# Altium schematic symbol library AHMET_CAN_KARACAN.SchLib: 94 symbols (part 1 of 3)
Pins are listed as number, name and electrical type; pins without a type are passive.

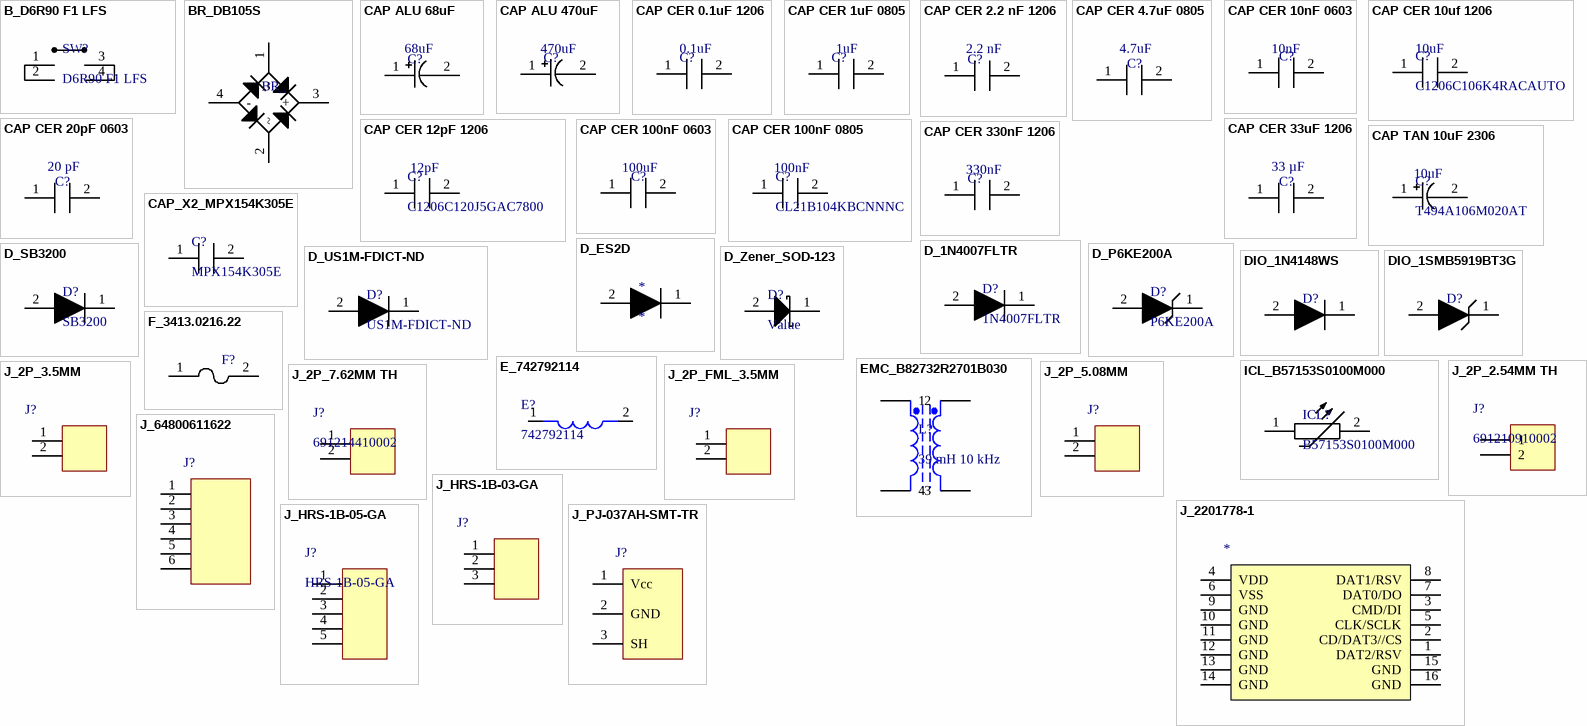
[diagram p0: symbols B_D6R90 F1 LFS to J_PJ-037AH-SMT-TR]

## B_D6R90 F1 LFS
designator SW?, comment D6R90 F1 LFS
Switch Key N.O. SPST 0.1A 32VDC 3VA 1.3N PC Pins Thru-Hole Box; Manufacturer: ITT C&K; Manufacturer Part Number: Y41A00511FPLFS; Supplier: Digi-Key; Supplier Part Number: 401-1978-ND; RoHS: Yes; Category: Pushbutton Switches; Stock: 51411; Pricing: 1=1,12, 25=0,9576, 100=0,868, 500=0,74872 (USD); ComponentLink1URL: https://datasheet.ciiva.com/16169/d6-4feb-16169815.pdf?src-supplier=Onlinecomponents.com; ComponentLink1Description: https://datasheet.ciiva.com/16169/d6-4feb-16169815.pdf?src-supplier=Onlinecomponents.com
footprint PBUTTON_OFFMOM
pins: 1, 2, 3, 4

## BR_DB105S
designator BR_, comment DB105S  (value not drawn)
Rectifier Bridge Diode Single 600V 1A 4-Pin SMD; Manufacturer: SMC Diode Solutions; Supplier: Digi-Key; Supplier Part Number: 1655-DB105STR-ND; Manufacturer Part Number: DB105S; RoHS: Yes; Category: Discrete Semiconductors; Stock: 7403; Pricing: 5=0,557, 10=0,446, 100=0,318, 500=0,222, 1000=0,159, 5000=0,139 (EUR); ComponentLink1URL: https://datasheet.ciiva.com/1174/1441678-1174528.pdf?src-supplier=Element14; ComponentLink1Description: https://datasheet.ciiva.com/1174/1441678-1174528.pdf?src-supplier=Element14; ComponentLink2URL: https://datasheet.ciiva.com/1235/1498392-1235776.pdf?src-supplier=Newark; ComponentLink2Description: https://datasheet.ciiva.com/1235/1498392-1235776.pdf?src-supplier=Newark; ComponentLink3URL: https://datasheet.ciiva.com/1235/90r8586-1235777.pdf?src-supplier=Newark; ComponentLink3Description: https://datasheet.ciiva.com/1235/90r8586-1235777.pdf?src-supplier=Newark
footprint DB_S_SMD_4
pins: 1 ~, 2 ~, 3 +, 4 -

## CAP ALU 68uF
designator C?, comment value 68uF  (hidden comment: EEV686M035A9HAA)
Cap Aluminum Lytic 68uF 35V 20%( 6.3 X 7.7mm) SMD 0.34 Ohm 280mA 2000h 105C T/R; Manufacturer: KEMET; Polarization: Polar; Designed By: Ahmet Can; ESR (Equivalent Series Resistance): 340mOhm @ 100kHz; Lifetime @ Temp.: 2000 Hrs @ 105°C; Ripple Current @ Low Frequency: 196 mA @ 120 Hz; Ripple Current @ High Frequency: 280 mA @ 100 kHz; Impedance: 340 mOhms; Supplier: Digi-Key; Supplier Part Number: 399-6722-1-ND; Manufacturer Part Number: EEV686M035A9HAA; RoHS: Yes; Category: Aluminum Electrolytic Capacitors; Stock: 22851; Pricing: 1=0,59, 10=0,415, 50=0,3134, 100=0,273, 500=0,2022 (USD); ComponentLink1URL: https://datasheet.ciiva.com/5365/kem-a4002-eev-535332-5365784.pdf?src-supplier=Mouser; ComponentLink1Description: https://datasheet.ciiva.com/5365/kem-a4002-eev-535332-5365784.pdf?src-supplier=Mouser; Case/Package: SMD, Radial, Can; Voltage Rating: 35V; Min Operating Temperature: -55°C; Max Operating Temperature: 105°C; Tolerance: ±20%; Mounting Type: Through Hole
footprint CAP_EEVseries (6.6x6.6)
pins: 1, 2

## CAP ALU 470uF
designator C?, comment value 470uF  (hidden comment: ESH477M050AH4AA)
Cap, 470UF, 50V, Alu Elec, Radial, Through Hole; Manufacturer: KEMET; Designed By: Ahmet Can; Lifetime @ Temp.: 2000 Hrs @ 105°C; Ripple Current @ Low Frequency: 630 mA @ 120 Hz; Ripple Current @ High Frequency: 945 mA @ 10 kHz; Polarization: Polar; Tolerance: ±20%; Supplier: Digi-Key; Supplier Part Number: 399-15683-ND; Manufacturer Part Number: ESH477M050AH4AA; RoHS: Yes; Stock: 6383; Pricing: 1=0,64, 10=0,455, 50=0,344, 100=0,2997, 500=0,222, 1000=0,1887, 2500=0,1776, 5000=0,1665 (USD); ComponentLink1URL: https://api.kemet.com/component-edge/download/datasheet/ESH477M050AH4AA.pdf?src-supplier=Digi-Key; ComponentLink1Description: https://api.kemet.com/component-edge/download/datasheet/ESH477M050AH4AA.pdf?src-supplier=Digi-Key; ComponentLink2URL: https://datasheet.octopart.com/ESH477M050AH4AA-KEMET-datasheet-130075338.pdf?src-supplier=Newark; ComponentLink2Description: https://datasheet.octopart.com/ESH477M050AH4AA-KEMET-datasheet-130075338.pdf?src-supplier=Newark; Category: Aluminum Electrolytic Capacitors; Case/Package: TH, Radial, Can; Mounting Type: Through Hole; Voltage Rating: 50V; Min Operating Temperature: -40°C; Max Operating Temperature: 105°C
footprint CAP_RADIAL_D10_P5
pins: 1, 2

## CAP CER 0.1uF 1206
designator C?, comment value 0.1uF  (hidden comment: C1206C104K3RAC7800)
Multilayer Ceramic Capacitor, 0.1 uF, 25 V, ± 10%, X7R, 1206 [3216 Metric]; Manufacturer: KEMET; Manufacturer Part Number: C1206C104K3RACTU; Material: 4241ConductorMaterial; Voltage Rating: 25V; Dissipation Factor: 3.5%; Designed By: Ahmet Can; Supplier: Digi-Key; Supplier Part Number: 399-C1206C104K3RAC7800CT-ND; RoHS: Yes; Category: Ceramic Capacitors; Stock: 306395; Pricing: 1=0,1, 10=0,072, 50=0,0408, 100=0,0338, 500=0,02372, 1000=0,01963 (USD); Mounting Technology: Surface Mount; Case/Package: 1206; Case Code (Metric): 3216; Case Code (Imperial): 1206; Dielectric Material: Ceramic; Min Operating Temperature: -55°C; Max Operating Temperature: 125°C; Tolerance: 10%; Dielectric: X7R; Packaging: Cut Tape; Package Quantity: 4000; Voltage Rating (DC): 25V; Termination: SMD/SMT; Series: C; Construction: Flat; Length: 3.2mm; Width: 0.063inch; Height: 0.78mm; Depth: 1.6mm; Thickness: 0.035inch; Reach SVHC Compliant: No; RoHS Compliant: Yes; ComponentLink1URL: https://datasheet.ciiva.com/5416/kem-c1002-x7r-smd-5416282.pdf?src-supplier=Mouser; ComponentLink1Description: https://datasheet.ciiva.com/5416/kem-c1002-x7r-smd-5416282.pdf?src-supplier=Mouser
footprint CAP_1206
pins: 1, 2

## CAP CER 1uF 0805
designator C?, comment value 1uF  (hidden comment: CL21B105KBFNNNE)
CAP CER %10 1uF 0805; Manufacturer: Samsung; Material: 4241ConductorMaterial; Tolerance: 10%; Voltage Rating: 50V; Dielectric: X7R; Designed By: Ahmet Can; Supplier: Digi-Key; Supplier Part Number: 1276-1029-1-ND; Manufacturer Part Number: CL21B105KBFNNNE; RoHS: Yes; Category: Ceramic Capacitors; Stock: 212507; Pricing: 1=0,11, 10=0,079, 50=0,045, 100=0,0373, 500=0,02616, 1000=0,02165 (USD); Mounting Technology: Surface Mount; Case/Package: 0805; Case Code (Metric): 2012; Case Code (Imperial): 0805; Min Operating Temperature: -55°C; Max Operating Temperature: 125°C; Packaging: Tape and Reel; Package Quantity: 1; Voltage: 50V; Series: CL; Construction: Flat; Voltage Rating (DC): 50V; Length: 2mm; Width: 0.049inch; Height: 1.25mm; Thickness: 0.053inch; Depth: 1.25mm; Radiation Hardening: No; RoHS Compliant: Yes; ComponentLink1URL: https://datasheet.ciiva.com/25800/cl21b105kbfnnne-25800291.pdf?src-supplier=Digi-Key; ComponentLink1Description: https://datasheet.ciiva.com/25800/cl21b105kbfnnne-25800291.pdf?src-supplier=Digi-Key; ComponentLink2URL: https://datasheet.ciiva.com/16449/cl21b105kbfnnne-16449003.pdf?src-supplier=Future+Electronics; ComponentLink2Description: https://datasheet.ciiva.com/16449/cl21b105kbfnnne-16449003.pdf?src-supplier=Future+Electronics
footprint CAP_0805
pins: 1, 2

## CAP CER 2.2 nF 1206
designator C?, comment value 2.2 nF  (hidden comment: CC1206KRX7R9BB222)
CAP CER 2200PF 50V X7R 1206; Manufacturer: Yageo; Supplier: Digi-Key; Supplier Part Number: 311-1171-1-ND; Manufacturer Part Number: CC1206KRX7R9BB222; RoHS: Yes; Category: Ceramic Capacitors; Stock: 22858; Pricing: 1=0,21, 10=0,145, 50=0,087, 100=0,0735, 500=0,05026, 1000=0,04446 (USD); ComponentLink1URL: https://datasheet.ciiva.com/29148/445097-da-01-en-kerko-chip-1206-x7r-2200pf-10proz-50vg-29148910.pdf?src-supplier=Conrad; ComponentLink1Description: https://datasheet.ciiva.com/29148/445097-da-01-en-kerko-chip-1206-x7r-2200pf-10proz-50vg-29148910.pdf?src-supplier=Conrad; ComponentLink2URL: https://datasheet.ciiva.com/26829/getdatasheetpartid-137961-26829676.pdf?src-supplier=Verical; ComponentLink2Description: https://datasheet.ciiva.com/26829/getdatasheetpartid-137961-26829676.pdf?src-supplier=Verical; ComponentLink3URL: https://datasheet.ciiva.com/145/mlccorderingcode-145128.pdf?src-supplier=Digi-Key; ComponentLink3Description: https://datasheet.ciiva.com/145/mlccorderingcode-145128.pdf?src-supplier=Digi-Key; ComponentLink4URL: https://datasheet.ciiva.com/145/mlccorderingcode-145129.pdf?src-supplier=Digi-Key; ComponentLink4Description: https://datasheet.ciiva.com/145/mlccorderingcode-145129.pdf?src-supplier=Digi-Key; ComponentLink5URL: https://datasheet.ciiva.com/145/mlccorderingcode-145130.pdf?src-supplier=Digi-Key; ComponentLink5Description: https://datasheet.ciiva.com/145/mlccorderingcode-145130.pdf?src-supplier=Digi-Key; ComponentLink6URL: https://datasheet.ciiva.com/11466/upy-gphc-x7r-6-3v-to-50v-8-11466764.pdf?src-supplier=Avnet; ComponentLink6Description: https://datasheet.ciiva.com/11466/upy-gphc-x7r-6-3v-to-50v-8-11466764.pdf?src-supplier=Avnet
footprint CAP_1206
pins: 1, 2

## CAP CER 4.7uF 0805
designator C?, comment value 4.7uF  (hidden comment: CL21A475KAQNNNE)
Multilayer Ceramic Capacitor, 4.7 uF, 25 V, ± 10%, X5R, 0805 [2012 Metric]; Manufacturer: Samsung; Material: 4241ConductorMaterial; Voltage Rating: 25V; Designed By: Ahmet Can; Supplier: Digi-Key; Supplier Part Number: 1276-1244-1-ND; Manufacturer Part Number: CL21A475KAQNNNE; RoHS: Yes; Category: Ceramic Capacitors; Stock: 3906800; Pricing: 1=0,1, 10=0,073, 50=0,0414, 100=0,0344, 500=0,02408, 1000=0,01994 (USD); Mounting Technology: Surface Mount; Case/Package: 0805; Case Code (Metric): 2012; Case Code (Imperial): 0805; Min Operating Temperature: -55°C; Max Operating Temperature: 85°C; Packaging: Tape and Reel; Tolerance: 10%; Dielectric: X5R; Voltage Rating (DC): 25V; Series: CL; Construction: Flat; Length: 2mm; Height: 1.25mm; Depth: 1.25mm; Radiation Hardening: No; Lead Free: Lead Free; RoHS Compliant: Yes; ComponentLink1URL: https://datasheet.ciiva.com/25798/cl21a475kaqnnne-25798882.pdf?src-supplier=Digi-Key; ComponentLink1Description: https://datasheet.ciiva.com/25798/cl21a475kaqnnne-25798882.pdf?src-supplier=Digi-Key
footprint CAP_0805
pins: 1, 2

## CAP CER 10nF 0603
designator C?, comment value 10nF  (hidden comment: 0603B103K160CT)
Multilayer Ceramic Capacitor, 0.01 F, 10%, X7R, 16 V, 0603 [1608 Metric] RoHS Compliant: Yes; Manufacturer: Walsin Technologies; Designed By: Ahmet Can; Voltage Rating: 16V; Supplier: Digi-Key; Supplier Part Number: 1292-1384-1-ND; Manufacturer Part Number: 0603B103K160CT; RoHS: Yes; Category: Ceramic Capacitors; Stock: 42693; Pricing: 1=0,1, 10=0,033, 50=0,0182, 100=0,0148, 500=0,0106, 1000=0,00833 (USD); ComponentLink1URL: http://www.farnell.com/datasheets/1958513.pdf?src-supplier=Farnell; ComponentLink1Description: http://www.farnell.com/datasheets/1958513.pdf?src-supplier=Farnell; ComponentLink2URL: http://www.passivecomponent.com/wp-content/uploads/2018/10/MLCC.pdf?src-supplier=Digi-Key; ComponentLink2Description: http://www.passivecomponent.com/wp-content/uploads/2018/10/MLCC.pdf?src-supplier=Digi-Key; ComponentLink3URL: https://datasheet.octopart.com/0603B103K160CT-Walsin-Technologies-datasheet-85392065.pdf?src-supplier=Element14; ComponentLink3Description: https://datasheet.octopart.com/0603B103K160CT-Walsin-Technologies-datasheet-85392065.pdf?src-supplier=Element14; ComponentLink4URL: https://datasheet.octopart.com/0603B103K160CT-Walsin-Technologies-datasheet-136037192.pdf?src-supplier=Future+Electronics; ComponentLink4Description: https://datasheet.octopart.com/0603B103K160CT-Walsin-Technologies-datasheet-136037192.pdf?src-supplier=Future+Electronics; ComponentLink5URL: https://datasheet.octopart.com/0603B103K160CT-Walsin-Technologies-datasheet-62066062.pdf?src-supplier=TME; ComponentLink5Description: https://datasheet.octopart.com/0603B103K160CT-Walsin-Technologies-datasheet-62066062.pdf?src-supplier=TME; Case/Package: 0603; Tolerance: ±10%; Dielectric: X7R; Min Operating Temperature: -55°C; Max Operating Temperature: 125°C; Mounting Type: Surface Mount; Voltage Rating (DC): 16V
footprint CAP_0603
pins: 1, 2

## CAP CER 10uf 1206
designator C?, comment C1206C106K4RACAUTO  value 10uF
Multilayer Ceramic Capacitor, 10 uF, 16 V, ± 10%, X7R, 1206 [3216 Metric]; Manufacturer: KEMET; Designed By: Ahmet Can; Supplier: Digi-Key; Supplier Part Number: 399-7012-1-ND; Manufacturer Part Number: C1206C106K4RACAUTO; RoHS: Yes; Category: Ceramic Capacitors; Stock: 270512; Pricing: 1=0,45, 10=0,312, 50=0,218, 100=0,1869, 500=0,14018, 1000=0,11838 (USD); ComponentLink1URL: https://datasheet.ciiva.com/5969/1776110-5969442.pdf?src-supplier=Farnell; ComponentLink1Description: https://datasheet.ciiva.com/5969/1776110-5969442.pdf?src-supplier=Farnell; ComponentLink2URL: https://datasheet.ciiva.com/7729/1776110-7729820.pdf?src-supplier=Element14; ComponentLink2Description: https://datasheet.ciiva.com/7729/1776110-7729820.pdf?src-supplier=Element14; ComponentLink3URL: https://datasheet.ciiva.com/22704/1776110-22704890.pdf?src-supplier=Element14; ComponentLink3Description: https://datasheet.ciiva.com/22704/1776110-22704890.pdf?src-supplier=Element14
footprint CAP_1206
pins: 1, 2

## CAP CER 12pF 1206
designator C?, comment C1206C120J5GAC7800  value 12pF
Multilayer Ceramic Capacitor, 12 pF, 50 V, ± 5%, C0G (NP0), 1206 [3216 Metric]; Manufacturer: KEMET; Manufacturer Part Number: C1206C120J5GACTU; Material: 4241ConductorMaterial; Voltage Rating: 50V; Dissipation Factor: 0.1%; Temperature Coefficient: 30ppm/°C; Designed By: Ahmet Can; Supplier: Digi-Key; Supplier Part Number: 399-C1206C120J5GAC7800CT-ND; RoHS: Yes; Category: Ceramic Capacitors; Stock: 15852; Pricing: 1=0,2, 10=0,14, 50=0,0838, 100=0,0708, 500=0,04842, 1000=0,04284 (USD); Mounting Technology: Surface Mount,PCB; Case/Package: 1206; Case Code (Metric): 3216; Case Code (Imperial): 1206; Weight: 0.000571oz; Dielectric Material: Ceramic; Min Operating Temperature: -55°C; Max Operating Temperature: 125°C; Tolerance: 5%; Dielectric: C0G; Packaging: Tape and Reel; Voltage Rating (DC): 50V; Termination: SMD/SMT; Voltage: 50V; Series: SMD Comm C0G; Construction: Flat; Length: 3.2mm; Width: 1.6mm; Height: 0.78mm; Depth: 1.6mm; Reach SVHC Compliant: No; Lead Free: Lead Free; RoHS Compliant: Yes; ComponentLink1URL: https://datasheet.ciiva.com/7730/1732697-7730097.pdf?src-supplier=Element14; ComponentLink1Description: https://datasheet.ciiva.com/7730/1732697-7730097.pdf?src-supplier=Element14; ComponentLink2URL: https://datasheet.ciiva.com/145/docfinderpartnumber-c1206c120j5gactu-145627.pdf?src-supplier=Digi-Key; ComponentLink2Description: https://datasheet.ciiva.com/145/docfinderpartnumber-c1206c120j5gactu-145627.pdf?src-supplier=Digi-Key; ComponentLink3URL: https://datasheet.ciiva.com/14595/70095383-14595525.pdf?src-supplier=Allied+Electronics; ComponentLink3Description: https://datasheet.ciiva.com/14595/70095383-14595525.pdf?src-supplier=Allied+Electronics; ComponentLink4URL: https://datasheet.ciiva.com/14604/70095383-14604488.pdf?src-supplier=Allied+Electronics; ComponentLink4Description: https://datasheet.ciiva.com/14604/70095383-14604488.pdf?src-supplier=Allied+Electronics
footprint CAP_1206
pins: 1, 2

## CAP CER 20pF 0603
designator C?, comment value 20 pF  (hidden comment: CL10C200JB8NNNC)
CAP CER 20PF 50V C0G/NP0 0603; Manufacturer: Samsung; Dielectric: C0G, NP0; Tolerance: ±5%; Designed By: Ahmet Can; Supplier: Digi-Key; Supplier Part Number: 1276-1187-1-ND; Manufacturer Part Number: CL10C200JB8NNNC; RoHS: Yes; Category: Ceramic Capacitors; Stock: 415846; Pricing: 1=0,1, 10=0,044, 50=0,0238, 100=0,0194, 500=0,01386, 1000=0,01089 (USD); ComponentLink1URL: https://datasheet.ciiva.com/26877/getdatasheetpartid-640634-26877974.pdf?src-supplier=Verical; ComponentLink1Description: https://datasheet.ciiva.com/26877/getdatasheetpartid-640634-26877974.pdf?src-supplier=Verical; ComponentLink2URL: https://datasheet.ciiva.com/26310/mlcc-catalogdownload2013-eng-26310315.pdf?src-supplier=Distrelec; ComponentLink2Description: https://datasheet.ciiva.com/26310/mlcc-catalogdownload2013-eng-26310315.pdf?src-supplier=Distrelec; Voltage Rating: 50V; Mounting Type: Surface Mount; Max Operating Temperature: 125°C; Min Operating Temperature: -55°C; Case/Package: 0603
footprint CAP_0603
pins: 1, 2

## CAP CER 33uF 1206
designator C?, comment value 33 µF  (hidden comment: C3216X5R1E336M160AC)
Multilayer Ceramic Capacitor, 33 uF, 25 V, ± 20%, X5R, 1206 [3216 Metric]; Manufacturer: TDK; Material: 4241ConductorMaterial; Designed By: Ahmet Can; Voltage Rating: 33V; Supplier: Digi-Key; Supplier Part Number: 445-8046-1-ND; Manufacturer Part Number: C3216X5R1E336M160AC; RoHS: Yes; Category: Ceramic Capacitors; Stock: 213154; Pricing: 1=0,96, 10=0,758, 50=0,6564, 100=0,5681, 500=0,42924, 1000=0,37875 (USD); ComponentLink1URL: https://datasheet.ciiva.com/24216/c3216x5r1e336m160ac-265051-24216512.pdf?src-supplier=Mouser; ComponentLink1Description: https://datasheet.ciiva.com/24216/c3216x5r1e336m160ac-265051-24216512.pdf?src-supplier=Mouser; ComponentLink2URL: https://datasheet.ciiva.com/6285/tdkmlcccaprange-6285278.pdf?src-supplier=Digi-Key; ComponentLink2Description: https://datasheet.ciiva.com/6285/tdkmlcccaprange-6285278.pdf?src-supplier=Digi-Key; Case/Package: 1206; Tolerance: ±20%; Dielectric: X5R; Min Operating Temperature: -55°C; Max Operating Temperature: 85°C; Mounting Type: Surface Mount
footprint CAP_1206
pins: 1, 2

## CAP CER 100nF 0603
designator C?, comment value 100uF  (hidden comment: C1206C107M9PAC7800)
Multilayer Ceramic Capacitor, 100 uF, 6.3 V, ± 20%, X5R, 1206 [3216 Metric]; Manufacturer: KEMET; Manufacturer Part Number: C1206C107M9PACTU; Material: 4241ConductorMaterial; Tolerance: 2%; Voltage Rating: 6.3V; Dissipation Factor: 5%; Designed By: Ahmet Can; Supplier: Digi-Key; Supplier Part Number: 399-C1206C107M9PAC7800CT-ND; RoHS: Yes; Category: Ceramic Capacitors; Stock: 49568; Pricing: 1=1,05, 10=0,832, 50=0,7208, 100=0,6238, 500=0,47132, 1000=0,41587 (USD); Mounting Technology: Surface Mount,PCB; Case/Package: 1206; Pins: 2; Case Code (Metric): 3216; Case Code (Imperial): 1206; Dielectric Material: Ceramic; Min Operating Temperature: -55°C; Max Operating Temperature: 85°C; Dielectric: X5R; Voltage Rating (DC): 6.3V; Package Quantity: 1; Packaging: Tape and Reel; Termination: SMD/SMT; Series: C; Voltage: 6.3V; Construction: Flat; Length: 3.2mm; Width: 0.063inch; Height: 1.6mm; Thickness: 0.071inch; Depth: 1.6mm; Radiation Hardening: No; Lead Free: Lead Free; RoHS Compliant: Yes; Reach SVHC Compliant: No; ComponentLink1URL: https://datasheet.ciiva.com/6161/1732717-6161699.pdf?src-supplier=Farnell; ComponentLink1Description: https://datasheet.ciiva.com/6161/1732717-6161699.pdf?src-supplier=Farnell; ComponentLink2URL: https://datasheet.ciiva.com/7729/1732717-7729831.pdf?src-supplier=Element14; ComponentLink2Description: https://datasheet.ciiva.com/7729/1732717-7729831.pdf?src-supplier=Element14; ComponentLink3URL: https://datasheet.ciiva.com/7729/1732717-7729830.pdf?src-supplier=Element14; ComponentLink3Description: https://datasheet.ciiva.com/7729/1732717-7729830.pdf?src-supplier=Element14; ComponentLink4URL: https://datasheet.ciiva.com/6114/40889-6114911.pdf?src-supplier=Farnell; ComponentLink4Description: https://datasheet.ciiva.com/6114/40889-6114911.pdf?src-supplier=Farnell; ComponentLink5URL: https://datasheet.ciiva.com/22749/1918694-22749624.pdf?src-supplier=Element14; ComponentLink5Description: https://datasheet.ciiva.com/22749/1918694-22749624.pdf?src-supplier=Element14; ComponentLink6URL: https://datasheet.ciiva.com/14589/70095383-14589256.pdf?src-supplier=Allied+Electronics; ComponentLink6Description: https://datasheet.ciiva.com/14589/70095383-14589256.pdf?src-supplier=Allied+Electronics; ComponentLink7URL: https://datasheet.ciiva.com/14592/70095383-14592223.pdf?src-supplier=Allied+Electronics; ComponentLink7Description: https://datasheet.ciiva.com/14592/70095383-14592223.pdf?src-supplier=Allied+Electronics
footprint CAP_0603
pins: 1, 2

## CAP CER 100nF 0805
designator C?, comment CL21B104KBCNNNC  value 100nF
Multilayer Ceramic Capacitor, 0.1 uF, 50 V, ± 10%, X7R, 0805 [2012 Metric]; Manufacturer: Samsung; Voltage Rating: 50V; Designed By: Ahmet Can; Supplier: Digi-Key; Supplier Part Number: 1276-1003-1-ND; Manufacturer Part Number: CL21B104KBCNNNC; RoHS: Yes; Category: Ceramic Capacitors; Stock: 1461740; Pricing: 1=0,1, 10=0,044, 50=0,024, 100=0,0196, 500=0,01404, 1000=0,01103 (USD); Mounting Technology: Surface Mount; Case/Package: 0805; Case Code (Metric): 2012; Case Code (Imperial): 0805; Material: Ceramic; Min Operating Temperature: -55°C; Max Operating Temperature: 125°C; Tolerance: 10%; Dielectric: X7R; Packaging: Tape and Reel; Voltage: 50V; Voltage Rating (DC): 50V; Series: CL; Construction: Flat; Length: 2mm; Width: 0.049inch; Height: 0.85mm; Depth: 1.25mm; Thickness: 0.037inch; Radiation Hardening: No; Lead Free: Lead Free; RoHS Compliant: Yes; ComponentLink1URL: https://datasheet.ciiva.com/25710/cl21b104kbcnnnc-25710182.pdf?src-supplier=Digi-Key; ComponentLink1Description: https://datasheet.ciiva.com/25710/cl21b104kbcnnnc-25710182.pdf?src-supplier=Digi-Key; ComponentLink2URL: https://datasheet.ciiva.com/29199/454152-da-01-en-vs-kondensator-0805-29199814.pdf?src-supplier=Conrad; ComponentLink2Description: https://datasheet.ciiva.com/29199/454152-da-01-en-vs-kondensator-0805-29199814.pdf?src-supplier=Conrad
footprint CAP_0805
pins: 1, 2

## CAP CER 330nF 1206
designator C?, comment value 330nF  (hidden comment: C1206C104K3RAC7800)
Cap Ceramic 0.33uF 16V X7R 10% SMD 1206 125°C Plastic T/R; Manufacturer: KEMET; Manufacturer Part Number: C1206C334K4RAC7800; Designed By: Ahmet Can; Supplier: Digi-Key; Supplier Part Number: 399-C1206C334K4RAC7800CT-ND; RoHS: Yes; Category: Ceramic Capacitors; Stock: 6810; Pricing: 1=0,21, 10=0,144, 50=0,096, 100=0,0816, 500=0,0576, 1000=0,0504 (USD); Mounting Technology: Surface Mount; Case/Package: 1206; Dielectric Material: Ceramic; Min Operating Temperature: -55°C; Max Operating Temperature: 125°C; Tolerance: 10%; Dielectric: X7R; Packaging: Tape and Reel; Voltage Rating (DC): 16V; Construction: Flat; Length: 3.2mm; Height: 0.78mm; Depth: 1.6mm; Radiation Hardening: No; RoHS Compliant: Yes; ComponentLink1URL: http://www.kemet.com/kemet/web/homepage/kechome.nsf/weben/C4DA2DA1D1C9D3C3CA2570A50016092D/$file/KEM_C1002_X7R_SMD.pdf; ComponentLink1Description: http://www.kemet.com/kemet/web/homepage/kechome.nsf/weben/C4DA2DA1D1C9D3C3CA2570A50016092D/$file/KEM_C1002_X7R_SMD.pdf
footprint CAP_1206
pins: 1, 2

## CAP TAN 10uF 2306
designator C?, comment T494A106M020AT  value 10uF
Cap Tant Solid 10uF 20V A CASE 20% (3.2 X 1.6 X 1.6mm) SMD 3216-18 3 Ohm 125 C T/R; Manufacturer: KEMET; Supplier: Digi-Key; Supplier Part Number: 399-5157-1-ND; Manufacturer Part Number: T494A106M020AT; RoHS: Yes; Category: Tantalum Capacitors; Stock: 64164; Pricing: 1=0,78, 10=0,596, 50=0,495, 100=0,4262, 500=0,32996, 1000=0,28414 (USD); ComponentLink1URL: https://datasheet.ciiva.com/22691/1778347-22691442.pdf?src-supplier=Element14; ComponentLink1Description: https://datasheet.ciiva.com/22691/1778347-22691442.pdf?src-supplier=Element14; ComponentLink2URL: https://datasheet.ciiva.com/258/kem-t2008-t494-258774.pdf?src-supplier=Digi-Key; ComponentLink2Description: https://datasheet.ciiva.com/258/kem-t2008-t494-258774.pdf?src-supplier=Digi-Key; ComponentLink3URL: https://datasheet.ciiva.com/258/kem-t2008-t494-258775.pdf?src-supplier=Digi-Key; ComponentLink3Description: https://datasheet.ciiva.com/258/kem-t2008-t494-258775.pdf?src-supplier=Digi-Key; ComponentLink4URL: https://datasheet.ciiva.com/258/kem-t2008-t494-258776.pdf?src-supplier=Digi-Key; ComponentLink4Description: https://datasheet.ciiva.com/258/kem-t2008-t494-258776.pdf?src-supplier=Digi-Key
footprint CAP_1206_TANT
pins: 1, 2

## CAP_X2_MPX154K305E
designator C?, comment MPX154K305E
MPX Boxed Metalized Propylene X2 Class Interference Suppressor Film Capacitors; Manufacturer: Cornell Dubilier; Designed By: Ahmet Can; AC Voltage Rate: 305 V; Value: 0.15 uF; Supplier: Digi-Key; Supplier Part Number: 1572-1789-ND; Manufacturer Part Number: MPX154K305E; RoHS: No; Stock: 2983; Pricing: 1=0,5, 10=0,338, 40=0,26925, 80=0,22238, 500=0,17372, 1000=0,14766, 2500=0,13898, 5000=0,13029 (USD); ComponentLink1URL: http://www.illinoiscapacitor.com/pdf/seriesDocuments/MPX%20series.pdf?src-supplier=Digi-Key; ComponentLink1Description: http://www.illinoiscapacitor.com/pdf/seriesDocuments/MPX%20series.pdf?src-supplier=Digi-Key; Case/Package: Radial
footprint X2_CAP
pins: 1, 2

## D_1N4007FLTR
designator D?, comment 1N4007FLTR
Diode 1000 V 1A Surface Mount SOD-123FL; Manufacturer: SMC Diode Solutions; Max DC Reverse Voltage (VrMax): 1000 V; Designed By: Ahmet Can; Average Rectified Current (Io): 1 A; Case/Package: SOD-123F; Supplier: Digi-Key; Supplier Part Number: 1655-1N4007FLTR-ND
footprint SOD_123_F
pins: 1, 2

## D_ES2D
designator *
Superfast Recovery Rectifier , DO-214AA/SMB, 200V, 2.00A, 20ns; Manufacturer: ON Semiconductor / Fairchild; Manufacturer Part Number: ES2D; Average Rectified Current (Io): 2 A; Designed By: Ahmet Can; Supplier: Digi-Key; Supplier Part Number: ES2DFSCT-ND; RoHS: Yes; Category: Rectifier Diodes; Stock: 825293; Pricing: 1=0,5, 10=0,406, 100=0,2767, 500=0,2075, 1000=0,15562 (USD); ComponentLink1URL: https://datasheet.ciiva.com/910/es2a-910816.pdf?src-supplier=Digi-Key; ComponentLink1Description: https://datasheet.ciiva.com/910/es2a-910816.pdf?src-supplier=Digi-Key; ComponentLink2URL: https://datasheet.ciiva.com/8303/es2d-8303722.pdf?src-supplier=Avnet; ComponentLink2Description: https://datasheet.ciiva.com/8303/es2d-8303722.pdf?src-supplier=Avnet; ComponentLink3URL: https://datasheet.ciiva.com/910/es2a-910814.pdf?src-supplier=Digi-Key; ComponentLink3Description: https://datasheet.ciiva.com/910/es2a-910814.pdf?src-supplier=Digi-Key; ComponentLink4URL: https://datasheet.ciiva.com/910/es2a-910815.pdf?src-supplier=Digi-Key; ComponentLink4Description: https://datasheet.ciiva.com/910/es2a-910815.pdf?src-supplier=Digi-Key; Max DC Reverse Voltage (VrMax): 200 V; Case/Package: DO-214AA, SMB
footprint DO-214AA_SMB
pins: 1, 2

## D_P6KE200A
designator D?, comment P6KE200A
274V Clamp 2.2A Ipp Tvs Diode Through Hole DO-204AC (DO-15); Manufacturer: Littelfuse; Designed By: Ahmet Can; Peak Pulse Power: 600 W; Min Breakdown Voltage: 190 V; Reverse Standoff Voltage: 171 V; Supplier: Digi-Key; Supplier Part Number: P6KE200ALFCT-ND; Manufacturer Part Number: P6KE200A; RoHS: Yes; Category: TVS Diodes; Stock: 21035; ComponentLink1URL: https://datasheet.ciiva.com/15143/getdatasheetpartid-74716-15143276.pdf?src-supplier=Verical; ComponentLink1Description: https://datasheet.ciiva.com/15143/getdatasheetpartid-74716-15143276.pdf?src-supplier=Verical; ComponentLink2URL: https://datasheet.ciiva.com/28473/607614-28473319.pdf?src-supplier=Element14; ComponentLink2Description: https://datasheet.ciiva.com/28473/607614-28473319.pdf?src-supplier=Element14; ComponentLink3URL: https://datasheet.ciiva.com/16386/littelfuse-tvs-diode-p6ke-16386012.pdf?src-supplier=Future+Electronics; ComponentLink3Description: https://datasheet.ciiva.com/16386/littelfuse-tvs-diode-p6ke-16386012.pdf?src-supplier=Future+Electronics; ComponentLink4URL: https://datasheet.ciiva.com/331/littelfuse-tvs-diode-p6ke-datasheet-pdf-331001.pdf?src-supplier=Digi-Key; ComponentLink4Description: https://datasheet.ciiva.com/331/littelfuse-tvs-diode-p6ke-datasheet-pdf-331001.pdf?src-supplier=Digi-Key; ComponentLink5URL: https://datasheet.ciiva.com/331/littelfuse-tvs-diode-p6ke-datasheet-pdf-331002.pdf?src-supplier=Digi-Key; ComponentLink5Description: https://datasheet.ciiva.com/331/littelfuse-tvs-diode-p6ke-datasheet-pdf-331002.pdf?src-supplier=Digi-Key; Case/Package: DO-204AC; Peak Pulse Current: 2.2 A; Max Clamping Voltage: 274 V; Pricing: 1=0,37, 10=0,299, 100=0,2036, 500=0,15272, 1000=0,11453, 2000=0,10499 (USD)
footprint DO-15 (DO-204 AC)
pins: 1, 2

## D_SB3200
designator D?, comment SB3200
Diode Schottky 200V 3A DO201AD; Manufacturer: Sangdest Microelectronics; Designed By: Ahmet Can; Supplier: Digi-Key; Supplier Part Number: 1655-SB3200CT-ND; Manufacturer Part Number: SB3200; RoHS: Yes; Category: Uncategorized; Stock: 8735; Pricing: 1=0,43, 10=0,33, 100=0,198, 500=0,18332 (USD); RoHS Compliant: Yes; Case/Package: DO-201AD, Axial; Average Rectified Current (Io): 3 A; Max DC Reverse Voltage (VrMax): 200 V
footprint DO-201AD AXIAL
pins: 1, 2

## D_US1M-FDICT-ND
designator D?, comment US1M-FDICT-ND
Diode Ultra Fast Recovery Rectifier 1K Volt 1A 2-Pin SMA Tape and Reel; Manufacturer: Diodes; Manufacturer Part Number: US1M-13-F; Designed By: Ahmet Can; Capacitance: 10pF @ 4V, 1MHz; Reverse Leakage Current: 5 µA @ 1000 V; Reverse Recovery Time: 75 ns; Forward Voltage: 1.7 V @ 1 A; DC Reverse Voltage: 1000 V; Supplier: Digi-Key; Supplier Part Number: US1M-FDICT-ND; RoHS: Yes; Category: Rectifier Diodes; Stock: 153150; Pricing: 1=0,43, 10=0,305, 100=0,1538, 500=0,13628, 1000=0,10605, 2000=0,09492 (USD); ComponentLink1URL: https://datasheet.ciiva.com/27052/1542696-27052440.pdf?src-supplier=Jameco; ComponentLink1Description: https://datasheet.ciiva.com/27052/1542696-27052440.pdf?src-supplier=Jameco; ComponentLink2URL: https://datasheet.ciiva.com/4454/ds16008-60440-4454096.pdf?src-supplier=Mouser; ComponentLink2Description: https://datasheet.ciiva.com/4454/ds16008-60440-4454096.pdf?src-supplier=Mouser; ComponentLink3URL: https://datasheet.ciiva.com/8301/ds16008-8301519.pdf?src-supplier=Avnet; ComponentLink3Description: https://datasheet.ciiva.com/8301/ds16008-8301519.pdf?src-supplier=Avnet; ComponentLink4URL: https://datasheet.ciiva.com/8303/ds16008-8303103.pdf?src-supplier=Avnet; ComponentLink4Description: https://datasheet.ciiva.com/8303/ds16008-8303103.pdf?src-supplier=Avnet; ComponentLink5URL: https://datasheet.ciiva.com/917/ds16008-917195.pdf?src-supplier=Digi-Key; ComponentLink5Description: https://datasheet.ciiva.com/917/ds16008-917195.pdf?src-supplier=Digi-Key; ComponentLink6URL: https://datasheet.ciiva.com/917/ds16008-917196.pdf?src-supplier=Digi-Key; ComponentLink6Description: https://datasheet.ciiva.com/917/ds16008-917196.pdf?src-supplier=Digi-Key; Case/Package: DO-214AC, SMA; Average Rectified Voltage: 1 A
footprint DO-214-AC, SMA
pins: 1, 2

## D_Zener_SOD-123
designator D?, comment Value
Zener
footprint SOD-123
pins: 1 K, 2 A

## DIO_1N4148WS
designator D?, comment 1N4148WS  (value not drawn)
Diode Ultra Fast Recovery Rectifier 75V 0.15A 2-Pin SOD-323F T/R; Manufacturer: ON Semiconductor / Fairchild; Forward Current: 150mA; Max Forward Surge Current (Ifsm): 2A; Max Reverse Current: 5uA; Reverse Recovery Time: 4ns; Element Configuration: Single; Designed By: Ahmet Can; Supplier: Digi-Key; Supplier Part Number: 1N4148WSFSCT-ND; Manufacturer Part Number: 1N4148WS; RoHS: Yes; Category: Rectifier Diodes; Stock: 1299120; Pricing: 1=0,17, 10=0,159, 100=0,0867, 500=0,05332, 1000=0,03636 (USD); Mounting Technology: Surface Mount; Pins: 2; Weight: 0.0276g; Min Operating Temperature: -55°C; Max Operating Temperature: 150°C; Packaging: Tape and Reel; Max Repetitive Reverse Voltage (Vrrm): 75V; Average Rectified Current: 150mA; Max Reverse Voltage (DC): 75V; Series: -; Package Quantity: 1; Recovery Time: 4ns; Reverse Voltage: 75V; Length: 1.8mm; Width: 1.35mm; Height: 1mm; Radiation Hardening: No; RoHS Compliant: Yes; Reach SVHC Compliant: No; Lead Free: Lead Free; ComponentLink1URL: https://datasheet.ciiva.com/15208/getdatasheetpartid-127819-15208358.pdf?src-supplier=Verical; ComponentLink1Description: https://datasheet.ciiva.com/15208/getdatasheetpartid-127819-15208358.pdf?src-supplier=Verical; ComponentLink2URL: https://datasheet.ciiva.com/8300/1n914bws-8300360.pdf?src-supplier=Avnet; ComponentLink2Description: https://datasheet.ciiva.com/8300/1n914bws-8300360.pdf?src-supplier=Avnet; ComponentLink3URL: https://datasheet.ciiva.com/910/1n4148ws-910381.pdf?src-supplier=Digi-Key; ComponentLink3Description: https://datasheet.ciiva.com/910/1n4148ws-910381.pdf?src-supplier=Digi-Key; ComponentLink4URL: https://datasheet.ciiva.com/910/1n4148ws-910382.pdf?src-supplier=Digi-Key; ComponentLink4Description: https://datasheet.ciiva.com/910/1n4148ws-910382.pdf?src-supplier=Digi-Key
footprint SOD_323_F
pins: 1, 2

## DIO_1SMB5919BT3G
designator D?, comment 1SMB5919BT3G  (value not drawn)
Vz=5.6V 5.32V~5.88V Izt=66.9mA; Manufacturer: ON Semiconductor; Designed By: Ahmet Can; Tolerance: ±5%; Zener Voltage: 5.6V; Max Power: 3W; Max Reverse Current: 5 µA; Max Forward Voltage: 1.5V; Supplier: Digi-Key; Supplier Part Number: 1SMB5919BT3GOSCT-ND; Manufacturer Part Number: 1SMB5919BT3G; RoHS: Yes; Category: Zener Diodes; Pricing: 1=0,45, 10=0,34, 100=0,2119, 500=0,14496, 1000=0,1115 (USD); ComponentLink1URL: https://datasheet.ciiva.com/27747/1308331-27747654.pdf?src-supplier=Jameco; ComponentLink1Description: https://datasheet.ciiva.com/27747/1308331-27747654.pdf?src-supplier=Jameco; ComponentLink2URL: https://datasheet.ciiva.com/1182/1smb5913bt3-d-1182657.pdf?src-supplier=Element14; ComponentLink2Description: https://datasheet.ciiva.com/1182/1smb5913bt3-d-1182657.pdf?src-supplier=Element14; ComponentLink3URL: https://datasheet.ciiva.com/1182/1smb5913bt3-d-1182658.pdf?src-supplier=Element14; ComponentLink3Description: https://datasheet.ciiva.com/1182/1smb5913bt3-d-1182658.pdf?src-supplier=Element14; ComponentLink4URL: https://datasheet.ciiva.com/895/1smb5913bt3-d-895203.pdf?src-supplier=Digi-Key; ComponentLink4Description: https://datasheet.ciiva.com/895/1smb5913bt3-d-895203.pdf?src-supplier=Digi-Key; ComponentLink5URL: https://datasheet.ciiva.com/895/1smb5913bt3-d-895204.pdf?src-supplier=Digi-Key; ComponentLink5Description: https://datasheet.ciiva.com/895/1smb5913bt3-d-895204.pdf?src-supplier=Digi-Key; ComponentLink6URL: https://datasheet.ciiva.com/895/1smb5913bt3-d-895205.pdf?src-supplier=Digi-Key; ComponentLink6Description: https://datasheet.ciiva.com/895/1smb5913bt3-d-895205.pdf?src-supplier=Digi-Key; ComponentLink7URL: https://datasheet.ciiva.com/15198/getdatasheetpartid-311040-15198695.pdf?src-supplier=Verical; ComponentLink7Description: https://datasheet.ciiva.com/15198/getdatasheetpartid-311040-15198695.pdf?src-supplier=Verical; ComponentLink8URL: https://datasheet.ciiva.com/16311/1smb5913bt3-d-16311847.pdf?src-supplier=Future+Electronics; ComponentLink8Description: https://datasheet.ciiva.com/16311/1smb5913bt3-d-16311847.pdf?src-supplier=Future+Electronics; Case/Package: SMB, DO-214AA; Max Operating Temperature: 150°C; Min Operating Temperature: -65°C; Mounting Technology: Surface Mount
footprint DO-214AA_SMB
pins: 1, 2

## E_742792114
designator E?, comment 742792114
Ferrite Beads Multi-Layer 50Ohm 25% 100MHz 3A 25mOhm DCR 1206 T/R; Manufacturer: Wurth Electronics; Impedance: 50R; Max DC Current: 3mA; DC Resistance (DCR): 40mR; Number of Lines: 1; Value: 12nH; Shielding: Unshielded; Designed By: Ahmet Can; Supplier: Digi-Key; Supplier Part Number: 732-1621-1-ND; Manufacturer Part Number: 742792114; RoHS: Yes; Category: Ferrite Beads and Chips; Stock: 42533; Pricing: 1=0,26, 10=0,253, 50=0,234, 100=0,222, 500=0,213, 1000=0,203 (USD); Mounting Technology: Surface Mount; Case/Package: SMD/SMT; Core Material: Ferrite; Weight: 0.000988oz; Case Code (Metric): 3216; Case Code (Imperial): 1206; Min Operating Temperature: -55°C; Max Operating Temperature: 125°C; Tolerance: 25%; Packaging: Tape and Reel; Package Quantity: 1; Current Rating: 3A; Max Current Rating: 3A; Termination: SMD/SMT; Test Frequency: 100MHz; Series: WE-CBF; Length: 3.2mm; Width: 1.6mm; Height: 0.051inch; Depth: 1.8mm; Lead Free: Lead Free; RoHS Compliant: Yes; Reach SVHC Compliant: Unknown; ComponentLink1URL: https://datasheet.ciiva.com/1013/742792114-1013593.pdf?src-supplier=Digi-Key; ComponentLink1Description: https://datasheet.ciiva.com/1013/742792114-1013593.pdf?src-supplier=Digi-Key; ComponentLink2URL: https://datasheet.ciiva.com/23762/742792114-23762943.pdf?src-supplier=Newark; ComponentLink2Description: https://datasheet.ciiva.com/23762/742792114-23762943.pdf?src-supplier=Newark; ComponentLink3URL: https://datasheet.ciiva.com/1126/1695965-1126674.pdf?src-supplier=Element14; ComponentLink3Description: https://datasheet.ciiva.com/1126/1695965-1126674.pdf?src-supplier=Element14; ComponentLink4URL: https://datasheet.ciiva.com/11795/0900766b80bbd134-11795825.pdf?src-supplier=Rs; ComponentLink4Description: https://datasheet.ciiva.com/11795/0900766b80bbd134-11795825.pdf?src-supplier=Rs; ComponentLink5URL: https://datasheet.ciiva.com/4940/742792114-88586-4940440.pdf?src-supplier=Mouser; ComponentLink5Description: https://datasheet.ciiva.com/4940/742792114-88586-4940440.pdf?src-supplier=Mouser; ComponentLink6URL: https://datasheet.ciiva.com/14122/742792114-eng-tds-14122774.pdf?src-supplier=Distrelec; ComponentLink6Description: https://datasheet.ciiva.com/14122/742792114-eng-tds-14122774.pdf?src-supplier=Distrelec; ComponentLink7URL: https://datasheet.ciiva.com/22711/1695965-22711371.pdf?src-supplier=Element14; ComponentLink7Description: https://datasheet.ciiva.com/22711/1695965-22711371.pdf?src-supplier=Element14; ComponentLink8URL: https://datasheet.ciiva.com/1013/742792114-1013595.pdf?src-supplier=Digi-Key; ComponentLink8Description: https://datasheet.ciiva.com/1013/742792114-1013595.pdf?src-supplier=Digi-Key
footprint CAP_1206
pins: 1, 2

## EMC_B82732R2701B030
designator L?, comment 39 mH 10 kHz
Common Mode Chokes Dual 39mH 10kHz 700mA Thru-Hole Box; Manufacturer: TDK EPCOS; Manufacturer Part Number: B82732R2701B030; Core Material: Ferrite; Inductance Tolerance: -30%; Tolerance: 50%; Number of Lines: 2; Voltage Rating (AC): 250V; Designed By: Ahmet Can; Supplier: Digi-Key; Supplier Part Number: 495-2781-ND; RoHS: Yes; Category: Uncategorized; Stock: 1298; Pricing: 1=2,91, 10=2,669, 25=2,2812, 40=2,0385, 80=1,74725, 230=1,65017, 640=1,55309, 1280=1,45602, 2560=1,40749 (USD); Mounting Technology: Through Hole; Pins: 4; Weight: 0.35274oz; Min Operating Temperature: -40°C; Max Operating Temperature: 125°C; Current Rating: 700mA; Packaging: Tray; Package Quantity: 640; Value: 39mH; Max DC Current: 700mA; Termination: Radial; Series: B82732; Max Current Rating: 700mA; Length: 24mm; Width: 16.5mm; Height: 23mm; Reach SVHC Compliant: No; RoHS Compliant: Yes; ComponentLink1URL: https://datasheet.ciiva.com/4956/b82732r-w-58440-4956336.pdf?src-supplier=Mouser; ComponentLink1Description: https://datasheet.ciiva.com/4956/b82732r-w-58440-4956336.pdf?src-supplier=Mouser
footprint CMC_B82732R2701B030
pins: 1, 2, 3, 4

## F_3413.0216.22
designator F?, comment 3413.0216.22  (value not drawn)
Fuse Chip Fast Acting 1A 32V SMD Solder Pad 1206 Glass T/R VDE/cULus; Manufacturer: Schurter; Body Material: Glass,Epoxy; Voltage Rating (DC): 63V; DC Cold Resistance: 94.2mR; Fuse Type: Board Mount (Cartridge Style Excluded); Approvals: VDE,cURus; Designed By: Ahmet Can; Supplier: Digi-Key; Supplier Part Number: 486-1144-1-ND; Manufacturer Part Number: 3413.0216.22; RoHS: Yes; Category: Fuses; Stock: 853; Pricing: 1=0,67, 50=0,524, 100=0,397, 500=0,3132 (USD); Mounting Technology: Surface Mount,PCB; Case/Package: 1206; Pins: 2; Weight: 0.000212oz; Case Code (Metric): 3216; Case Code (Imperial): 1206; Contact Plating: Gold; Terminal Material: Tin; Min Operating Temperature: -55°C; Max Operating Temperature: 90°C; Current Rating: 1A; Package Quantity: 1000; Voltage Rating (AC): 32V; Packaging: Tape and Reel; Voltage Rating: 32V; Termination: SMD/SMT; Working Voltage: 32V; Series: USI 1206; Length: 3.2mm; Width: 1.6mm; Height: 0.6mm; Lead Free: Lead Free; RoHS Compliant: Yes; ComponentLink1URL: https://datasheet.ciiva.com/301/typ-usi-1206-301440.pdf?src-supplier=Digi-Key; ComponentLink1Description: https://datasheet.ciiva.com/301/typ-usi-1206-301440.pdf?src-supplier=Digi-Key; ComponentLink2URL: https://datasheet.ciiva.com/8264/typ-usi-1206-8264583.pdf?src-supplier=Avnet; ComponentLink2Description: https://datasheet.ciiva.com/8264/typ-usi-1206-8264583.pdf?src-supplier=Avnet; ComponentLink3URL: https://datasheet.ciiva.com/301/typ-usi-1206-301439.pdf?src-supplier=Digi-Key; ComponentLink3Description: https://datasheet.ciiva.com/301/typ-usi-1206-301439.pdf?src-supplier=Digi-Key; ComponentLink4URL: https://datasheet.ciiva.com/301/typ-usi-1206-301441.pdf?src-supplier=Digi-Key; ComponentLink4Description: https://datasheet.ciiva.com/301/typ-usi-1206-301441.pdf?src-supplier=Digi-Key; ComponentLink5URL: https://datasheet.ciiva.com/14541/70160006-14541114.pdf?src-supplier=Allied+Electronics; ComponentLink5Description: https://datasheet.ciiva.com/14541/70160006-14541114.pdf?src-supplier=Allied+Electronics; ComponentLink6URL: https://datasheet.ciiva.com/14102/qousi1206-data-e-14102903.pdf?src-supplier=Distrelec; ComponentLink6Description: https://datasheet.ciiva.com/14102/qousi1206-data-e-14102903.pdf?src-supplier=Distrelec; ComponentLink7URL: https://datasheet.ciiva.com/16316/typ-usi-1206-16316588.pdf?src-supplier=Future+Electronics; ComponentLink7Description: https://datasheet.ciiva.com/16316/typ-usi-1206-16316588.pdf?src-supplier=Future+Electronics
footprint FUSE_1206
pins: 1, 2

## ICL_B57153S0100M000
designator ICL?, comment B57153S0100M000
Inrush current limiters include PTC and NTC Thermistors.; Manufacturer: TDK EPCOS; Designed By: Ahmet Can; Max Steady State Current: 2 A; Tolerance: ±20%; R @ 25°C: 10 Ohms; Supplier: Digi-Key; Supplier Part Number: 495-2076-ND; Manufacturer Part Number: B57153S0100M000; RoHS: Yes; Category: Thermistors; Stock: 24882; Pricing: 1=0,6, 5=0,582, 10=0,564, 50=0,4748, 100=0,3942, 250=0,35836, 500=0,3046, 1000=0,26876, 5000=0,24188 (USD); ComponentLink1URL: https://datasheet.ciiva.com/15097/getdatasheetpartid-116248-15097684.pdf?src-supplier=Verical; ComponentLink1Description: https://datasheet.ciiva.com/15097/getdatasheetpartid-116248-15097684.pdf?src-supplier=Verical; ComponentLink2URL: https://datasheet.ciiva.com/29386/419723-da-01-en-ntc-sensor-b57153s0100m000-29386959.pdf?src-supplier=Conrad; ComponentLink2Description: https://datasheet.ciiva.com/29386/419723-da-01-en-ntc-sensor-b57153s0100m000-29386959.pdf?src-supplier=Conrad; ComponentLink3URL: https://datasheet.ciiva.com/48779/1899131-48779797.pdf?src-supplier=Element14; ComponentLink3Description: https://datasheet.ciiva.com/48779/1899131-48779797.pdf?src-supplier=Element14
footprint NTC_B57153S0100M000
pins: 1, 2

## J_2P_2.54MM TH
designator J?, comment 691210910002
Tb, Wire To Brd, R/A, 2Way, 18Awg Rohs Compliant: Yes |Wurth Elektronik 691210910002; Manufacturer: Wurth Electronics; Plating: Brass,Steel; Number of Positions Per Level: 2; Number of Levels: 1; Current: 6A; Voltage: 150V; Number of Contacts: 2NUMBER; Wire Gauge (Max): 30AWG; Designed By: Ahmet Can; Supplier: Digi-Key; Supplier Part Number: 732-691210910002-ND; Manufacturer Part Number: 691210910002; RoHS: Yes; Category: Terminal Blocks; Stock: 2053; Pricing: 1=1,14, 10=1,043, 50=0,984, 100=0,905, 500=0,748 (USD); Mounting Technology: Through Hole; Color: Green; Contact Plating: Brass,Tin; Housing Material: Nylon; Contact Material: 154ConductorMaterial; Min Operating Temperature: -40°C; Max Operating Temperature: 105°C; Series: WR-TBL Series 2109; Termination: Screw; Current Rating: 6A; Number of Rows: 1NUMBER; Voltage Rating: 150V; Height: 8.7mm; Wire Gauge (Min): 18AWG; RoHS Compliant: Yes; ComponentLink1URL: https://katalog.we-online.de/em/datasheet/6912109100xx.pdf?src-supplier=Digi-Key; ComponentLink1Description: https://katalog.we-online.de/em/datasheet/6912109100xx.pdf?src-supplier=Digi-Key
footprint 2P_2.54MM_ TH
pins: 1, 2

## J_2P_3.5MM
designator J?, comment 691322110002  (value not drawn)
Serie 3221 - 3.50mm Horizontal PCB Header WR-TBL, 2 pin; Manufacturer: Wurth Electronics; Number of Positions Per Level: 2; Number of Levels: 1; Current: 10A; Voltage: 300V; Pitch: 3.5mm; Designed By: Ahmet Can; Supplier: Digi-Key; Supplier Part Number: 732-2769-ND; Manufacturer Part Number: 691322110002; RoHS: Yes; Category: Terminal Blocks; Stock: 9403; Pricing: 1=0,44, 10=0,394, 50=0,34, 100=0,305, 500=0,286, 1000=0,269 (USD); Mounting Technology: Through Hole; Contact Material: Brass; Color: Green; Housing Material: Nylon; Number of Rows: 1; Termination: Solder; Number of Contacts: 2; Series: WR-TBL Series 3221; Number of Positions: 2; Length: 10.5mm; Width: 8.1mm; Height: 9.2mm; Lead Free: Lead Free; RoHS Compliant: Yes; Flammability Rating: UL94 V-0; Reach SVHC Compliant: Unknown; ComponentLink1URL: https://datasheet.ciiva.com/8043/1442234-8043560.pdf?src-supplier=Element14; ComponentLink1Description: https://datasheet.ciiva.com/8043/1442234-8043560.pdf?src-supplier=Element14; ComponentLink2URL: https://datasheet.ciiva.com/795/6913221100xx-795775.pdf?src-supplier=Digi-Key; ComponentLink2Description: https://datasheet.ciiva.com/795/6913221100xx-795775.pdf?src-supplier=Digi-Key
footprint 2P_3.5MM_MALE_CONN
pins: 1, 2

## J_2P_5.08MM
designator J?, comment OSTTE020104  (value not drawn)
2~24 Poles, Pluggable, Receptacle, Horizontal, 5.08 Pitch, Terminal Block Connector; Manufacturer: CUI Devices; Manufacturer Part Number: TBP01R1-508-02BE; Current - UL: 16A; Voltage - UL: 300V; Current - IEC: 20A; Voltage - IEC: 320V; Designed By: Ahmet Can; Supplier: Digi-Key; Supplier Part Number: 102-6406-ND; RoHS: Yes; Category: Terminal Blocks; Stock: 121998; Pricing: 1=0,56, 10=0,296, 25=0,2096, 50=0,1784, 100=0,1722, 250=0,1456, 500=0,13464, 1000=0,11898, 5000=0,0908 (USD); ComponentLink1URL: https://www.cuidevices.com/product/resource/digikeypdf/tbp01r1-508.pdf?src-supplier=Digi-Key; ComponentLink1Description: https://www.cuidevices.com/product/resource/digikeypdf/tbp01r1-508.pdf?src-supplier=Digi-Key; ComponentLink2URL: https://datasheet.octopart.com/TBP01R1-508-02BE-CUI-Devices-datasheet-147843976.pdf?src-supplier=Future+Electronics; ComponentLink2Description: https://datasheet.octopart.com/TBP01R1-508-02BE-CUI-Devices-datasheet-147843976.pdf?src-supplier=Future+Electronics; ComponentLink3URL: https://datasheet.octopart.com/TBP01R1-508-02BE-CUI-Devices-datasheet-154730754.pdf?src-supplier=Electro+Sonic; ComponentLink3Description: https://datasheet.octopart.com/TBP01R1-508-02BE-CUI-Devices-datasheet-154730754.pdf?src-supplier=Electro+Sonic; Min Operating Temperature: -40°C; Max Operating Temperature: 105°C; Mounting Type: Through Hole
footprint 1x2_3.5mm_WTHCONN
pins: 1, 2

## J_2P_7.62MM TH
designator J?, comment 691214410002
7.62 Mm Terminal Block, Horizont; Manufacturer: Wurth Electronics; Designed By: Ahmet Can; Supplier: Digi-Key; Supplier Part Number: 732-691214410002-ND; Manufacturer Part Number: 691214410002; RoHS: No; Category: Terminal Blocks; Stock: 193; Pricing: 1=1,27, 10=1,135, 50=1,054, 100=0,97, 500=0,722 (USD); ComponentLink1URL: https://katalog.we-online.de/em/datasheet/6912144100xx.pdf?src-supplier=Digi-Key; ComponentLink1Description: https://katalog.we-online.de/em/datasheet/6912144100xx.pdf?src-supplier=Digi-Key
footprint 2P_7.62MM_TH
pins: 1, 2

## J_2P_FML_3.5MM
designator J?, comment 0393570002  (value not drawn)
3.50mm Pitch Beau Eurostyle Fixed Mount PCB Terminal Block, 2 Circuits; Manufacturer: Molex; Supplier: Digi-Key; Supplier Part Number: WM7877-ND; Manufacturer Part Number: 0393570002; RoHS: Yes; Stock: 107955; Pricing: 1=1,04, 10=0,729, 25=0,6804, 50=0,6174, 100=0,6147, 250=0,51908, 500=0,49176, 1000=0,43713, 5000=0,35517 (USD); ComponentLink1URL: https://datasheet.ciiva.com/6751/393590004-sd-6751377.pdf?src-supplier=Digi-Key; ComponentLink1Description: https://datasheet.ciiva.com/6751/393590004-sd-6751377.pdf?src-supplier=Digi-Key
footprint 2P_FEMALE_3.5MM_CONN
pins: 1, 2